# Altium schematic symbol library 3296X-1-103.SchLib: 1 symbol
Pins are listed as number, name and electrical type; pins without a type are passive.

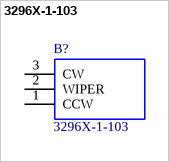
[diagram p0: symbol 3296X-1-103]

## 3296X-1-103
designator B?
3296X side adj cermet trimmer,10K 10mm; Manufacturer_Name: Bourns; Manufacturer_Part_Number: 3296X-1-103; Mouser Part Number: 652-3296X-1-103; Mouser Price/Stock: https://www.mouser.co.uk/ProductDetail/Bourns/3296X-1-103?qs=1WK3E8%252B1vGCDWmrofBGMvw%3D%3D; Arrow Part Number: 3296X-1-103; Arrow Price/Stock: https://www.arrow.com/en/products/3296x-1-103/bourns; Mouser Testing Part Number: *; Mouser Testing Price/Stock: *; Datasheet Link: https://componentsearchengine.com/Datasheets/1/3296X-1-103.pdf; Geometry.Height: 10mm
footprint 3296X1223LF
pins: 1 CCW, 2 WIPER, 3 CW